# Altium footprint library SENSOR.PcbLib: 86 footprints (part 6 of 6)
Each footprint in its own frame and in the unit in brackets; x right, y up, seen from the top. Pads: shape width x height; smd on the part's side, far side on the other; paste and mask are expansions set on the pad; w line width, h text height; cw(c..) or ccw(c..) is an arc to the next point about the centre after c.
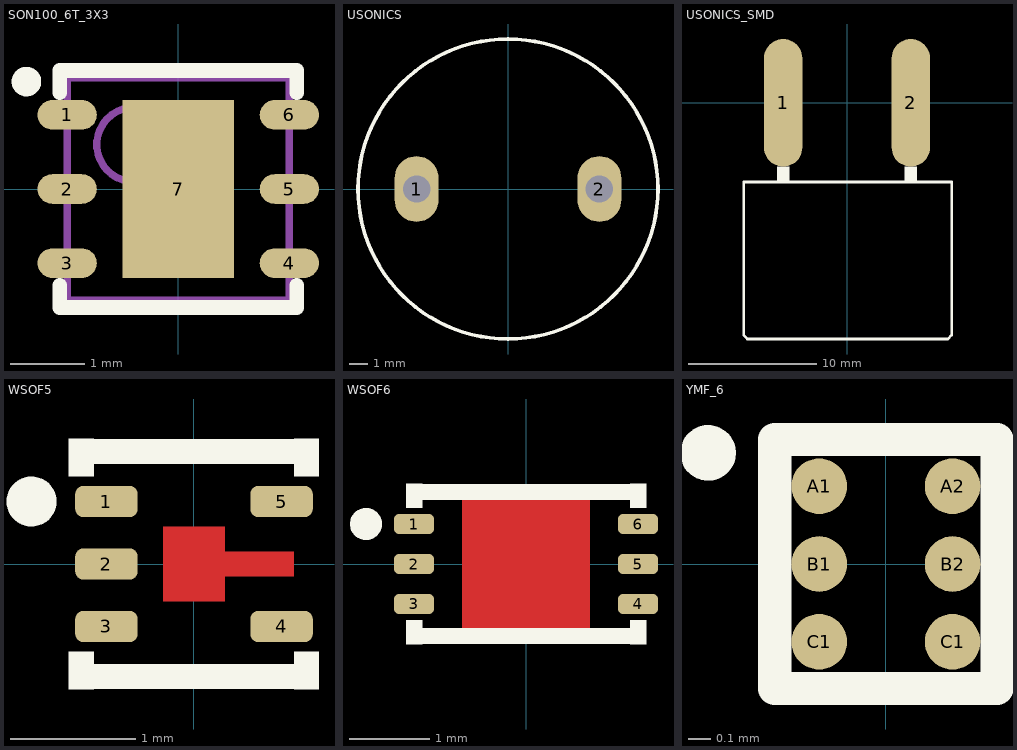
[diagram p5: the footprints below, top view; thin cyan lines are the x and y axes]

## SON100_6T_3X3 [mm] "SON, 6-Leads, Body 3x3mm, Pitch 1.00mm, STS21"
height 1.1
pads (7):
  oval 0.8x0.4 smd mask+0.075: 1(-1.5,1) 2(-1.5,0) 3(-1.5,-1) 4(1.5,-1) 5(1.5,0) 6(1.5,1)
  rect 1.5x2.4 smd paste-5: 7(0,0)
Top Overlay:
  circle w0.2: c-2.05,1.45 r0.1
  lines w0.2: -1.6,-1.3 -1.6,-1.6 1.6,-1.6 1.6,-1.3 ; -1.6,1.3 -1.6,1.6 1.6,1.6 1.6,1.3
Top Paste:
  rectangle: -0.6,-1 0.6,-0.2
  rectangle: -0.6,0.2 0.6,1
Mechanical 13:
  circle w0.1: c-0.6,0.6 r0.5
  lines w0.1: -1.5,-1.5 1.5,-1.5 1.5,1.5 -1.5,1.5 -1.5,-1.5
3D body "Sensirion_Humidity_SHT2x-STEP-file.STEP": height 1.1, standoff 0, extent -1.5,-1.5 1.5,1.5

## USONICS [mm] "ULTRASONIC 400PT160"
height 1.27
pads (2):
  oval 2.4x3.6 hole 1.5: 1(-5,0) 2(5,0)
Top Overlay:
  circle w0.2: c0,0 r8.2
3D body "User Library-400PT160.STEP": height 12.1, standoff -9.9, extent -8.1,-8.1 8.1,8.1

## USONICS_SMD [mm] "ULTRASONIC 400PT160"
height 1.27
pads (2):
  oval 3x10 smd: 1(-5,0) 2(5,0)
Top Overlay:
  rectangle: -5.5,-6.2 -4.5,-5
  rectangle: 4.5,-6.2 5.5,-5
  lines w0.2: -8.1,-18.2 -8.1,-6.2 8.2,-6.2 8.2,-18.2 7.9,-18.5 -7.8,-18.5 -8.1,-18.2
3D body "User Library-400PT160.STEP": height 8.6, standoff -7.6, extent -8.05,-18.4 8.15,3.6

## WSOF5 [mm] "ROHM light sensor, 1.6x1.6x0.6mm, 0.5mm pitch"
height 0.6
pads (5):
  rrect50% 0.5x0.25 smd paste-0.025 mask+0.05: 1(-0.7,0.5) 2(-0.7,0) 3(-0.7,-0.5) 4(0.7,-0.5) 5(0.7,0.5)
Top Layer:
  rectangle: -0.25,-0.3 0.25,0.3
  rectangle: 0,-0.1 0.8,0.1
Top Overlay:
  circle w0.2: c-1.3,0.5 r0.1
  region: -1,0.7 -0.8,0.7 -0.8,1 -1,1
  region: 1,0.7 0.8,0.7 0.8,1 1,1
  region: 1,-0.7 0.8,-0.7 0.8,-1 1,-1
  region: -1,-0.7 -0.8,-0.7 -0.8,-1 -1,-1
  lines w0.2: -0.9,-0.9 0.9,-0.9 ; -0.9,0.9 0.9,0.9
3D body "WSOF5.step": height 0.6, standoff 0, extent -0.8,-0.8 0.8,0.8

## WSOF6 [mm] "ROHM light sensor, 1.6x3x0.75mm, 0.5mm pitch"
height 0.75
pads (6):
  rrect50% 0.5x0.25 smd paste-0.025 mask+0.05: 1(-1.4,0.5) 2(-1.4,0) 3(-1.4,-0.5) 4(1.4,-0.5) 5(1.4,0) 6(1.4,0.5)
Top Layer:
  rectangle: -0.8,-0.8 0.8,0.8
Top Overlay:
  circle w0.2: c-2,0.5 r0.1
  region: -1.5,0.7 -1.3,0.7 -1.3,1 -1.5,1
  region: 1.5,0.7 1.3,0.7 1.3,1 1.5,1
  region: 1.5,-0.7 1.3,-0.7 1.3,-1 1.5,-1
  region: -1.5,-0.7 -1.3,-0.7 -1.3,-1 -1.5,-1
  lines w0.2: -1.4,-0.9 1.4,-0.9 ; -1.4,0.9 1.4,0.9
3D body "WSOF6I.STEP": height 0.75, standoff -0.02, extent -1.5,-0.81 1.5,0.81

## YMF_6 [mm] "YMF0006A PicoStar, 0.85x0.95x0.22mm, 0.35mm pitch"
height 0.22
pads (6):
  round 0.25 smd mask-0.05: A1(-0.3,0.35) A2(0.3,0.35) B1(-0.3,0) B2(0.3,0) C1(-0.3,-0.35) C1(0.3,-0.35)
Top Overlay:
  circle w0.15: c-0.8,0.5 r0.05
  lines w0.15: -0.5,-0.56 0.5,-0.56 0.5,0.56 -0.5,0.56 -0.5,-0.56
3D body: height 0.22, standoff 0.01, extent -0.425,-0.475 0.425,0.475